# Altium integrated library Mc60.IntLib: 1 symbol
Pins are listed as number, name and electrical type; pins without a type are passive.

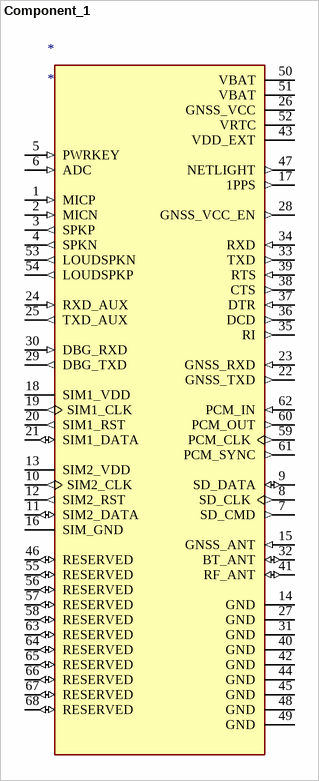
[diagram p0: symbol Component_1]

## Component_1
designator *
footprint PCBComponent_1
pins: 1 MICP (in), 2 MICN (in), 3 SPKP (out), 4 SPKN (out), 5 PWRKEY (in), 6 ADC (in), 7 SD_CMD (out), 8 SD_CLK (out), 9 SD_DATA (io), 10 SIM2_CLK (out), 11 SIM2_DATA (io), 12 SIM2_RST (out), 13 SIM2_VDD (power), 14 GND (power), 15 GNSS_ANT (in), 16 SIM_GND (power), 17 1PPS (out), 18 SIM1_VDD (power), 19 SIM1_CLK (out), 20 SIM1_RST (out), 21 SIM1_DATA (io), 22 GNSS_TXD (out), 23 GNSS_RXD (in), 24 RXD_AUX (in), 25 TXD_AUX (out), 26 GNSS_VCC (power), 27 GND (power), 28 GNSS_VCC_EN (out), 29 DBG_TXD (out), 30 DBG_RXD (in), 31 GND (power), 32 BT_ANT (io), 33 TXD (out), 34 RXD (in), 35 RI (out), 36 DCD (out), 37 DTR (in), 38 CTS (out), 39 RTS (in), 40 GND (power), 41 RF_ANT (io), 42 GND (power), 43 VDD_EXT (power), 44 GND (power), 45 GND (power), 46 RESERVED (io), 47 NETLIGHT (out), 48 GND (power), 49 GND (power), 50 VBAT (power), 51 VBAT (power), 52 VRTC (power), 53 LOUDSPKN (out), 54 LOUDSPKP (out), 55 RESERVED (io), 56 RESERVED (io), 57 RESERVED (io), 58 RESERVED (io), 59 PCM_CLK (out), 60 PCM_OUT (out), 61 PCM_SYNC (out), 62 PCM_IN (in), 63 RESERVED (io), 64 RESERVED (io), 65 RESERVED (io), 66 RESERVED (io), 67 RESERVED (io), 68 RESERVED (io)